# Altium schematic symbol library IR4427STRPBF.Schlib: 1 symbol
Pins are listed as number, name and electrical type; pins without a type are passive.

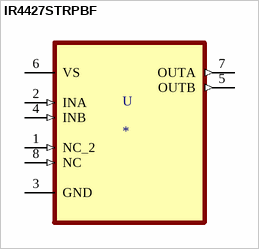
[diagram p0: symbol IR4427STRPBF]

## IR4427STRPBF
designator U
Low-Side Gate Driver IC Non-Inverting 8-SOIC; MF: Infineon Technologies; MP: IR4427STRPBF; Package: SOIC-8 Infineon; Price: None; SnapEDA_Link: https://www.snapeda.com/parts/IR4427STRPBF/Infineon%20Technologies/view-part/1815787/?ref=snap; Value: *; Supplier 1: Digi-Key; Supplier Part Number 1: IR4427SPBFCT-ND
footprint 8-SOIC
pins: 1 NC_2 (in), 2 INA (in), 3 GND, 4 INB (in), 5 OUTB (out), 6 VS (power), 7 OUTA (out), 8 NC (in)